# Altium footprint library lab2.PcbLib: 18 footprints (part 2 of 2)
Each footprint in its own frame and in the unit in brackets; x right, y up, seen from the top. Pads: shape width x height; smd on the part's side, far side on the other; paste and mask are expansions set on the pad; w line width, h text height; cw(c..) or ccw(c..) is an arc to the next point about the centre after c.
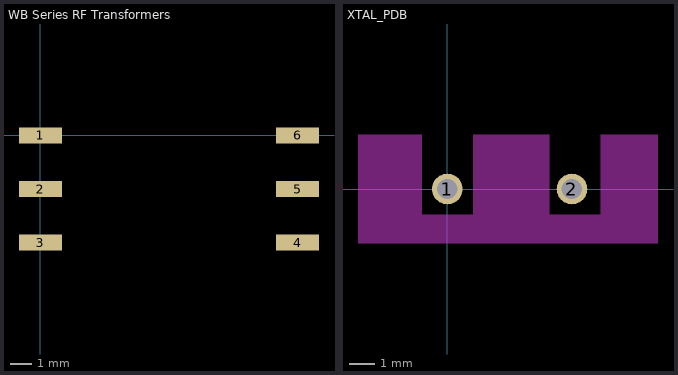
[diagram p1: the footprints below, top view; thin cyan lines are the x and y axes]

## WB Series RF Transformers [mm]
pads (6):
  rect 2x0.76 smd: 1(0,0) 2(0,-2.5) 3(0,-5) 4(12,-5) 5(12,-2.5) 6(12,0)
3D body "Coilcraft-WB36-1SL.STEP": height 6.42, standoff 0.06, extent -0.135,-6.63 11.885,1.63

## XTAL_PDB [mm]
height 3.5
pads (2):
  round 1.2 hole 0.8: 1(0,0) 2(4.88,0)
Keep-Out Layer:
  rectangle: -3.5,-2.125 8.25,-1
  rectangle: 6,-1 8.25,2.125
  rectangle: -3.5,-1 -1,2.125
  rectangle: 1,-1 4,2.125
3D body: height 3.5, standoff 0, extent -3.313,-1.875 8.062,2